# Altium schematic symbol library C0603C104J4RECAUTO.SchLib: 1 symbol
Pins are listed as number, name and electrical type; pins without a type are passive.

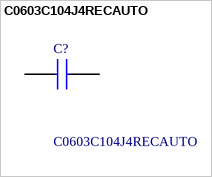
[diagram p0: symbol C0603C104J4RECAUTO]

## C0603C104J4RECAUTO
designator C?
ESD SMD Auto X7R, Ceramic, 0.1 uF, 5%, 16 VDC, 40 VDC, 125C, -55C, X7R, SMD, MLCC, Temperature Stable, Electro Static Discharge, Automotive Grade, 3.5 % , 5 GOhms, 4.8 mg, 0603, 1.6mm, 0.8mm, 0.8mm, 0.7mm, 0.35mm, 4000, 78  Weeks, 80; Manufacturer_Name: KEMET; Geometry.Height: 0.87mm; Mouser Part Number: 80-C0603C104J4RECAUT; Mouser Price/Stock: https://www.mouser.co.uk/ProductDetail/KEMET/C0603C104J4RECAUTO?qs=MLItCLRbWswpTgrKtA5UXg%3D%3D; Manufacturer_Part_Number: C0603C104J4RECAUTO; Datasheet Link: https://content.kemet.com/datasheets/KEM_C1090_X7R_ESD.pdf
footprint CAPC1608X87N
pins: 1, 2